# Altium integrated library NSC Temperature Sensor.IntLib: 347 symbols (part 4 of 9)
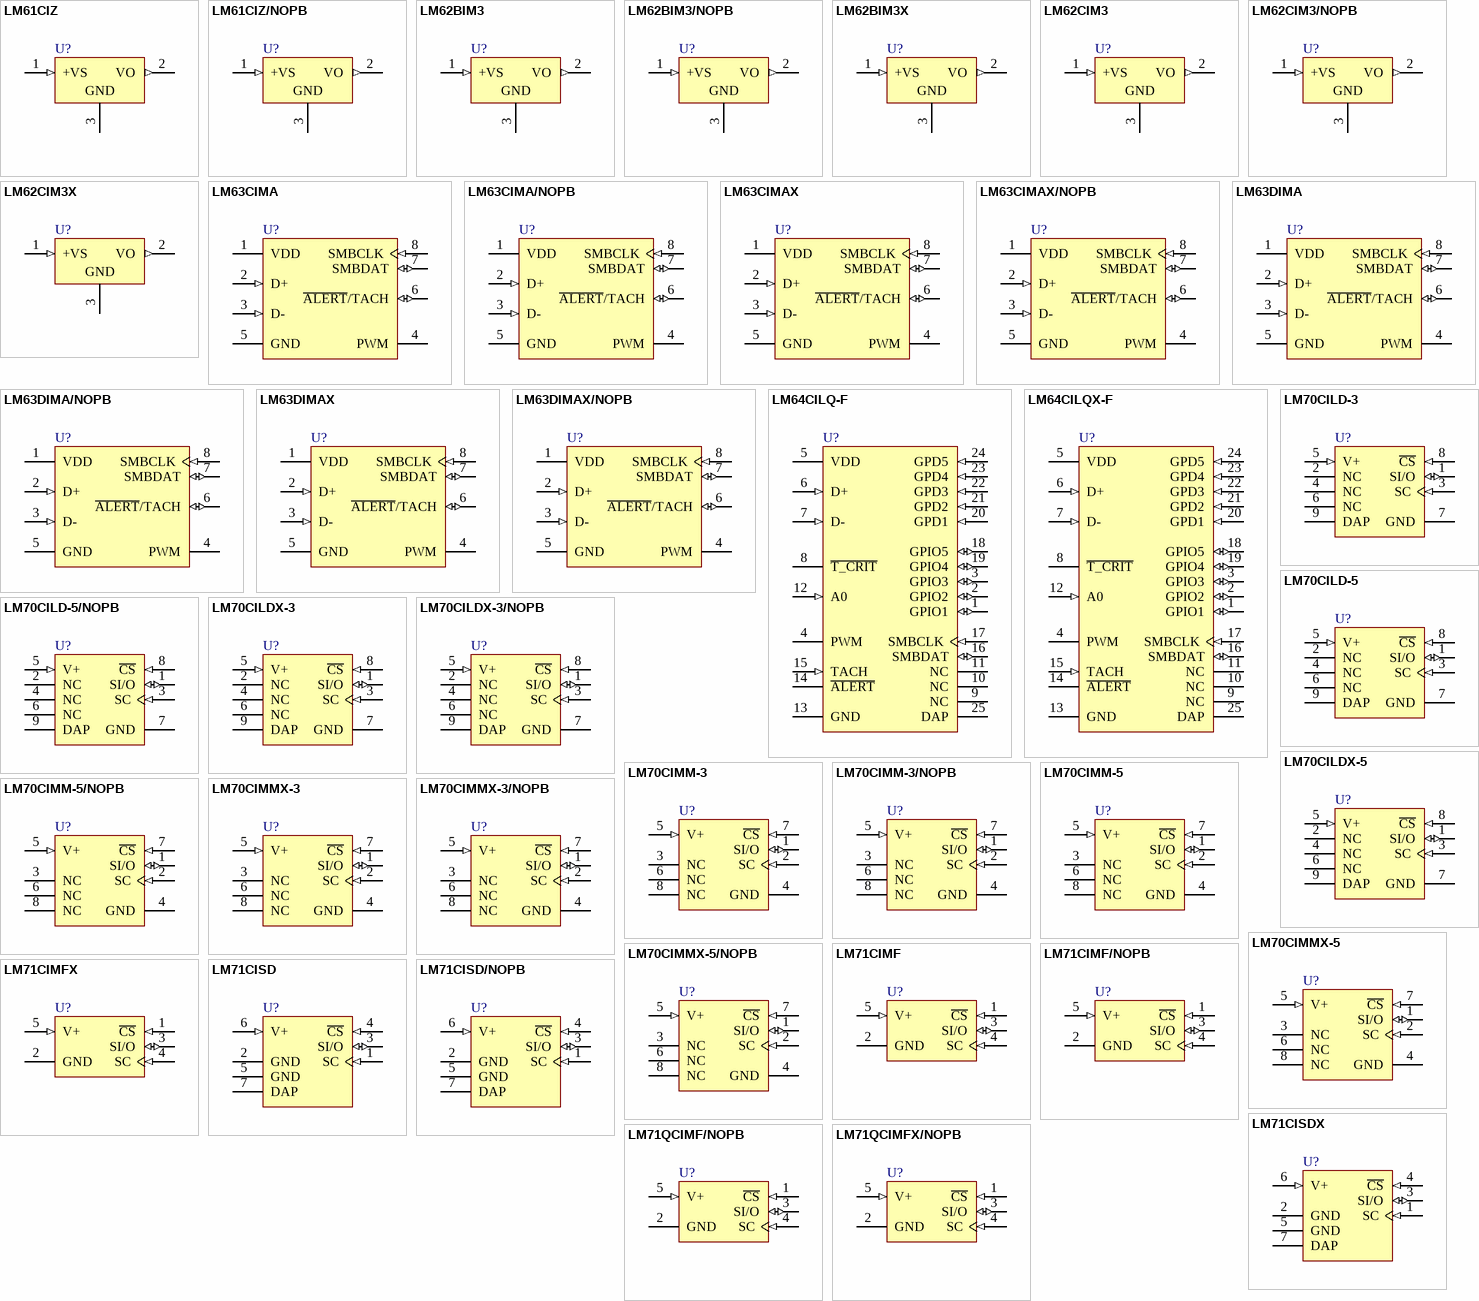
[diagram p12: symbols LM61CIZ to LM71QCIMFX/NOPB]

## LM62CIM3
designator U?
2.7V, 15.6mV/°C, Temperature Sensor, 3-pin SOT-23; PartNumber: LM62CIM3; Manufacturer: National Semiconductor; PackageTopMarking: T7C*XTT; PowerWise: N; CompType: Temp Sensor IC; Published: 4-Dec-2008; DatasheetVersion: Feb-2010; PackageVersion: revB, Mar-2003; PackageReference: MF03A; Publisher: Altium Limited; PackageDescription: Molded SOT-23, .115 x .051 x .037in Body, 3 Lead, .075 in Pitch; Supplier 1: Digi-Key; Supplier Part Number 1: LM62CIM3-ND; RoHS: N; PinCount: 3; ComponentLink1Description: LM62 Datasheet; ComponentLink1URL: http://www.national.com/ds/LM/LM62.pdf; ComponentLink2Description: LM62 Web Page; ComponentLink2URL: http://www.national.com/pf/LM/LM62.html; ComponentLink3Description: MF03A Package Page; ComponentLink3URL: http://www.national.com/packaging/folders/mf03a.html
footprint MF03A_N (SOT23, 3-Leads, Body 2.9x1.3mm, Pitch 0.95mm, Lead Span 2.4mm, IPC Medium Density)
footprint MF03A_L (SOT23, 3-Leads, Body 2.9x1.3mm, Pitch 0.95mm, Lead Span 2.4mm, IPC High Density)
footprint MF03A_M (SOT23, 3-Leads, Body 2.9x1.3mm, Pitch 0.95mm, Lead Span 2.4mm, IPC Low Density)
pins: 1 +VS (in), 2 VO (out), 3 GND (power)

## LM62CIM3/NOPB
designator U?
2.7V, 15.6mV/°C, Temperature Sensor, 3-pin SOT-23, Pb-Free; PartNumber: LM62CIM3/NOPB; Manufacturer: National Semiconductor; PackageTopMarking: T7C*XTT; PowerWise: N; CompType: Temp Sensor IC; Published: 1-Mar-2010; DatasheetVersion: Feb-2010; PackageVersion: revB, Mar-2003; PackageReference: MF03A; Publisher: Altium Limited; PackageDescription: Molded SOT-23, .115 x .051 x .037in Body, 3 Lead, .075 in Pitch; Supplier 1: Digi-Key; Supplier Part Number 1: LM62CIM3/NOPBTR-ND; Supplier 2: Digi-Key; Supplier Part Number 2: LM62CIM3/NOPBCT-ND; Supplier 3: Digi-Key; Supplier Part Number 3: LM62CIM3/NOPBDKR-ND; RoHS: Y; PinCount: 3; ComponentLink1Description: LM62 Datasheet; ComponentLink1URL: http://www.national.com/ds/LM/LM62.pdf; ComponentLink2Description: LM62 Web Page; ComponentLink2URL: http://www.national.com/pf/LM/LM62.html; ComponentLink3Description: MF03A Package Page; ComponentLink3URL: http://www.national.com/packaging/folders/mf03a.html
footprint MF03A_N (SOT23, 3-Leads, Body 2.9x1.3mm, Pitch 0.95mm, Lead Span 2.4mm, IPC Medium Density)
footprint MF03A_L (SOT23, 3-Leads, Body 2.9x1.3mm, Pitch 0.95mm, Lead Span 2.4mm, IPC High Density)
footprint MF03A_M (SOT23, 3-Leads, Body 2.9x1.3mm, Pitch 0.95mm, Lead Span 2.4mm, IPC Low Density)
pins: 1 +VS (in), 2 VO (out), 3 GND (power)

## LM62CIM3X
designator U?
2.7V, 15.6mV/°C, Temperature Sensor, 3-pin SOT-23; PartNumber: LM62CIM3X; Manufacturer: National Semiconductor; PackageTopMarking: T7C*XTT; PowerWise: N; CompType: Temp Sensor IC; Published: 1-Mar-2010; DatasheetVersion: Feb-2010; PackageVersion: revB, Mar-2003; PackageReference: MF03A; Publisher: Altium Limited; PackageDescription: Molded SOT-23, .115 x .051 x .037in Body, 3 Lead, .075 in Pitch; Supplier 1: Digi-Key; Supplier Part Number 1: LM62CIM3XTR-ND; Supplier 2: Digi-Key; Supplier Part Number 2: LM62CIM3XCT-ND; RoHS: N; PinCount: 3; ComponentLink1Description: LM62 Datasheet; ComponentLink1URL: http://www.national.com/ds/LM/LM62.pdf; ComponentLink2Description: LM62 Web Page; ComponentLink2URL: http://www.national.com/pf/LM/LM62.html; ComponentLink3Description: MF03A Package Page; ComponentLink3URL: http://www.national.com/packaging/folders/mf03a.html
footprint MF03A_N (SOT23, 3-Leads, Body 2.9x1.3mm, Pitch 0.95mm, Lead Span 2.4mm, IPC Medium Density)
footprint MF03A_L (SOT23, 3-Leads, Body 2.9x1.3mm, Pitch 0.95mm, Lead Span 2.4mm, IPC High Density)
footprint MF03A_M (SOT23, 3-Leads, Body 2.9x1.3mm, Pitch 0.95mm, Lead Span 2.4mm, IPC Low Density)
pins: 1 +VS (in), 2 VO (out), 3 GND (power)

## LM63CIMA
designator U?
±1ºC/±3ºC Accurate Remote Diode Digital Temperature Sensor with Integrated Fan Control, 8-pin Narrow SOIC; PartNumber: LM63CIMA; Manufacturer: National Semiconductor; PackageTopMarking: NSZXTT*LM63*CIMA; PowerWise: Y; CompType: Temp Sensor IC; Published: 4-Dec-2008; DatasheetVersion: Aug-2009; PackageVersion: revM, May-2009; PackageReference: M08A; Publisher: Altium Limited; PackageDescription: SOIC Narrow, 4.9 x 3.9 x 1.45mm, 8 Lead, 1.27mm Pitch; Supplier 1: Farnell; Supplier Part Number 1: 1286926; RoHS: N; PinCount: 8; Code_JEDEC: MS-012-AA; Code_IPC: SOIC127P600-8; ComponentLink1Description: LM63 Datasheet; ComponentLink1URL: http://www.national.com/ds/LM/LM63.pdf; ComponentLink2Description: LM63 Web Page; ComponentLink2URL: http://www.national.com/pf/LM/LM63.html; ComponentLink3Description: M08A Package Page; ComponentLink3URL: http://www.national.com/packaging/folders/m08a.html
footprint M08A_N (SOIC, 8-Leads, Body 4.9x3.9mm, Pitch 1.27mm, IPC Medium Density)
footprint M08A_L (SOIC, 8-Leads, Body 4.9x3.9mm, Pitch 1.27mm, IPC High Density)
footprint M08A_M (SOIC, 8-Leads, Body 4.9x3.9mm, Pitch 1.27mm, IPC Low Density)
pins: 1 VDD (power), 2 D+ (in), 3 D- (in), 4 PWM (oc), 5 GND (power), 6 ~{ALERT}/TACH (io), 7 SMBDAT (io), 8 SMBCLK (in)

## LM63CIMA/NOPB
designator U?
±1ºC/±3ºC Accurate Remote Diode Digital Temperature Sensor with Integrated Fan Control, 8-pin Narrow SOIC, Pb-Free; PartNumber: LM63CIMA/NOPB; Manufacturer: National Semiconductor; PackageTopMarking: NSZXTT*LM63*CIMA; PowerWise: Y; CompType: Temp Sensor IC; Published: 1-Mar-2010; DatasheetVersion: Aug-2009; PackageVersion: revM, May-2009; PackageReference: M08A; Publisher: Altium Limited; PackageDescription: SOIC Narrow, 4.9 x 3.9 x 1.45mm, 8 Lead, 1.27mm Pitch; Supplier 1: Digi-Key; Supplier Part Number 1: LM63CIMA-ND; Supplier 2: Farnell; Supplier Part Number 2: 1694028; RoHS: Y; PinCount: 8; Code_JEDEC: MS-012-AA; Code_IPC: SOIC127P600-8; ComponentLink1Description: LM63 Datasheet; ComponentLink1URL: http://www.national.com/ds/LM/LM63.pdf; ComponentLink2Description: LM63 Web Page; ComponentLink2URL: http://www.national.com/pf/LM/LM63.html; ComponentLink3Description: M08A Package Page; ComponentLink3URL: http://www.national.com/packaging/folders/m08a.html
footprint M08A_N (SOIC, 8-Leads, Body 4.9x3.9mm, Pitch 1.27mm, IPC Medium Density)
footprint M08A_L (SOIC, 8-Leads, Body 4.9x3.9mm, Pitch 1.27mm, IPC High Density)
footprint M08A_M (SOIC, 8-Leads, Body 4.9x3.9mm, Pitch 1.27mm, IPC Low Density)
pins: 1 VDD (power), 2 D+ (in), 3 D- (in), 4 PWM (oc), 5 GND (power), 6 ~{ALERT}/TACH (io), 7 SMBDAT (io), 8 SMBCLK (in)

## LM63CIMAX
designator U?
±1ºC/±3ºC Accurate Remote Diode Digital Temperature Sensor with Integrated Fan Control, 8-pin Narrow SOIC; PartNumber: LM63CIMAX; Manufacturer: National Semiconductor; PackageTopMarking: NSZXTT*LM63*CIMA; PowerWise: Y; CompType: Temp Sensor IC; Published: 1-Mar-2010; DatasheetVersion: Aug-2009; PackageVersion: revM, May-2009; PackageReference: M08A; Publisher: Altium Limited; PackageDescription: SOIC Narrow, 4.9 x 3.9 x 1.45mm, 8 Lead, 1.27mm Pitch; RoHS: N; PinCount: 8; Code_JEDEC: MS-012-AA; Code_IPC: SOIC127P600-8; ComponentLink1Description: LM63 Datasheet; ComponentLink1URL: http://www.national.com/ds/LM/LM63.pdf; ComponentLink2Description: LM63 Web Page; ComponentLink2URL: http://www.national.com/pf/LM/LM63.html; ComponentLink3Description: M08A Package Page; ComponentLink3URL: http://www.national.com/packaging/folders/m08a.html
footprint M08A_N (SOIC, 8-Leads, Body 4.9x3.9mm, Pitch 1.27mm, IPC Medium Density)
footprint M08A_L (SOIC, 8-Leads, Body 4.9x3.9mm, Pitch 1.27mm, IPC High Density)
footprint M08A_M (SOIC, 8-Leads, Body 4.9x3.9mm, Pitch 1.27mm, IPC Low Density)
pins: 1 VDD (power), 2 D+ (in), 3 D- (in), 4 PWM (oc), 5 GND (power), 6 ~{ALERT}/TACH (io), 7 SMBDAT (io), 8 SMBCLK (in)

## LM63CIMAX/NOPB
designator U?
±1ºC/±3ºC Accurate Remote Diode Digital Temperature Sensor with Integrated Fan Control, 8-pin Narrow SOIC, Pb-Free; PartNumber: LM63CIMAX/NOPB; Manufacturer: National Semiconductor; PackageTopMarking: NSZXTT*LM63*CIMA; PowerWise: Y; CompType: Temp Sensor IC; Published: 1-Mar-2010; DatasheetVersion: Aug-2009; PackageVersion: revM, May-2009; PackageReference: M08A; Publisher: Altium Limited; PackageDescription: SOIC Narrow, 4.9 x 3.9 x 1.45mm, 8 Lead, 1.27mm Pitch; Supplier 1: Digi-Key; Supplier Part Number 1: LM63CIMAX-ND; RoHS: Y; PinCount: 8; Code_JEDEC: MS-012-AA; Code_IPC: SOIC127P600-8; ComponentLink1Description: LM63 Datasheet; ComponentLink1URL: http://www.national.com/ds/LM/LM63.pdf; ComponentLink2Description: LM63 Web Page; ComponentLink2URL: http://www.national.com/pf/LM/LM63.html; ComponentLink3Description: M08A Package Page; ComponentLink3URL: http://www.national.com/packaging/folders/m08a.html
footprint M08A_N (SOIC, 8-Leads, Body 4.9x3.9mm, Pitch 1.27mm, IPC Medium Density)
footprint M08A_L (SOIC, 8-Leads, Body 4.9x3.9mm, Pitch 1.27mm, IPC High Density)
footprint M08A_M (SOIC, 8-Leads, Body 4.9x3.9mm, Pitch 1.27mm, IPC Low Density)
pins: 1 VDD (power), 2 D+ (in), 3 D- (in), 4 PWM (oc), 5 GND (power), 6 ~{ALERT}/TACH (io), 7 SMBDAT (io), 8 SMBCLK (in)

## LM63DIMA
designator U?
±1ºC/±3ºC Accurate Remote Diode Digital Temperature Sensor with Integrated Fan Control, 8-pin Narrow SOIC; PartNumber: LM63DIMA; Manufacturer: National Semiconductor; PackageTopMarking: NSZXTT*LM63*DIMA; PowerWise: Y; CompType: Temp Sensor IC; Published: 4-Dec-2008; DatasheetVersion: Aug-2009; PackageVersion: revM, May-2009; PackageReference: M08A; Publisher: Altium Limited; PackageDescription: SOIC Narrow, 4.9 x 3.9 x 1.45mm, 8 Lead, 1.27mm Pitch; Supplier 1: Farnell; Supplier Part Number 1: 1286925; RoHS: N; PinCount: 8; Code_JEDEC: MS-012-AA; Code_IPC: SOIC127P600-8; ComponentLink1Description: LM63 Datasheet; ComponentLink1URL: http://www.national.com/ds/LM/LM63.pdf; ComponentLink2Description: LM63 Web Page; ComponentLink2URL: http://www.national.com/pf/LM/LM63.html; ComponentLink3Description: M08A Package Page; ComponentLink3URL: http://www.national.com/packaging/folders/m08a.html
footprint M08A_N (SOIC, 8-Leads, Body 4.9x3.9mm, Pitch 1.27mm, IPC Medium Density)
footprint M08A_L (SOIC, 8-Leads, Body 4.9x3.9mm, Pitch 1.27mm, IPC High Density)
footprint M08A_M (SOIC, 8-Leads, Body 4.9x3.9mm, Pitch 1.27mm, IPC Low Density)
pins: 1 VDD (power), 2 D+ (in), 3 D- (in), 4 PWM (oc), 5 GND (power), 6 ~{ALERT}/TACH (io), 7 SMBDAT (io), 8 SMBCLK (in)

## LM63DIMA/NOPB
designator U?
±1ºC/±3ºC Accurate Remote Diode Digital Temperature Sensor with Integrated Fan Control, 8-pin Narrow SOIC, Pb-Free; PartNumber: LM63DIMA/NOPB; Manufacturer: National Semiconductor; PackageTopMarking: NSZXTT*LM63*DIMA; PowerWise: Y; CompType: Temp Sensor IC; Published: 1-Mar-2010; DatasheetVersion: Aug-2009; PackageVersion: revM, May-2009; PackageReference: M08A; Publisher: Altium Limited; PackageDescription: SOIC Narrow, 4.9 x 3.9 x 1.45mm, 8 Lead, 1.27mm Pitch; Supplier 1: Digi-Key; Supplier Part Number 1: LM63DIMA-ND; Supplier 2: Farnell; Supplier Part Number 2: 1654322; RoHS: Y; PinCount: 8; Code_JEDEC: MS-012-AA; Code_IPC: SOIC127P600-8; ComponentLink1Description: LM63 Datasheet; ComponentLink1URL: http://www.national.com/ds/LM/LM63.pdf; ComponentLink2Description: LM63 Web Page; ComponentLink2URL: http://www.national.com/pf/LM/LM63.html; ComponentLink3Description: M08A Package Page; ComponentLink3URL: http://www.national.com/packaging/folders/m08a.html
footprint M08A_N (SOIC, 8-Leads, Body 4.9x3.9mm, Pitch 1.27mm, IPC Medium Density)
footprint M08A_L (SOIC, 8-Leads, Body 4.9x3.9mm, Pitch 1.27mm, IPC High Density)
footprint M08A_M (SOIC, 8-Leads, Body 4.9x3.9mm, Pitch 1.27mm, IPC Low Density)
pins: 1 VDD (power), 2 D+ (in), 3 D- (in), 4 PWM (oc), 5 GND (power), 6 ~{ALERT}/TACH (io), 7 SMBDAT (io), 8 SMBCLK (in)

## LM63DIMAX
designator U?
±1ºC/±3ºC Accurate Remote Diode Digital Temperature Sensor with Integrated Fan Control, 8-pin Narrow SOIC; PartNumber: LM63DIMAX; Manufacturer: National Semiconductor; PackageTopMarking: NSZXTT*LM63*DIMA; PowerWise: Y; CompType: Temp Sensor IC; Published: 1-Mar-2010; DatasheetVersion: Aug-2009; PackageVersion: revM, May-2009; PackageReference: M08A; Publisher: Altium Limited; PackageDescription: SOIC Narrow, 4.9 x 3.9 x 1.45mm, 8 Lead, 1.27mm Pitch; RoHS: N; PinCount: 8; Code_JEDEC: MS-012-AA; Code_IPC: SOIC127P600-8; ComponentLink1Description: LM63 Datasheet; ComponentLink1URL: http://www.national.com/ds/LM/LM63.pdf; ComponentLink2Description: LM63 Web Page; ComponentLink2URL: http://www.national.com/pf/LM/LM63.html; ComponentLink3Description: M08A Package Page; ComponentLink3URL: http://www.national.com/packaging/folders/m08a.html
footprint M08A_N (SOIC, 8-Leads, Body 4.9x3.9mm, Pitch 1.27mm, IPC Medium Density)
footprint M08A_L (SOIC, 8-Leads, Body 4.9x3.9mm, Pitch 1.27mm, IPC High Density)
footprint M08A_M (SOIC, 8-Leads, Body 4.9x3.9mm, Pitch 1.27mm, IPC Low Density)
pins: 1 VDD (power), 2 D+ (in), 3 D- (in), 4 PWM (oc), 5 GND (power), 6 ~{ALERT}/TACH (io), 7 SMBDAT (io), 8 SMBCLK (in)

## LM63DIMAX/NOPB
designator U?
±1ºC/±3ºC Accurate Remote Diode Digital Temperature Sensor with Integrated Fan Control, 8-pin Narrow SOIC, Pb-Free; PartNumber: LM63DIMAX/NOPB; Manufacturer: National Semiconductor; PackageTopMarking: NSZXTT*LM63*DIMA; PowerWise: Y; CompType: Temp Sensor IC; Published: 1-Mar-2010; DatasheetVersion: Aug-2009; PackageVersion: revM, May-2009; PackageReference: M08A; Publisher: Altium Limited; PackageDescription: SOIC Narrow, 4.9 x 3.9 x 1.45mm, 8 Lead, 1.27mm Pitch; Supplier 1: Digi-Key; Supplier Part Number 1: LM63DIMAX-ND; RoHS: Y; PinCount: 8; Code_JEDEC: MS-012-AA; Code_IPC: SOIC127P600-8; ComponentLink1Description: LM63 Datasheet; ComponentLink1URL: http://www.national.com/ds/LM/LM63.pdf; ComponentLink2Description: LM63 Web Page; ComponentLink2URL: http://www.national.com/pf/LM/LM63.html; ComponentLink3Description: M08A Package Page; ComponentLink3URL: http://www.national.com/packaging/folders/m08a.html
footprint M08A_N (SOIC, 8-Leads, Body 4.9x3.9mm, Pitch 1.27mm, IPC Medium Density)
footprint M08A_L (SOIC, 8-Leads, Body 4.9x3.9mm, Pitch 1.27mm, IPC High Density)
footprint M08A_M (SOIC, 8-Leads, Body 4.9x3.9mm, Pitch 1.27mm, IPC Low Density)
pins: 1 VDD (power), 2 D+ (in), 3 D- (in), 4 PWM (oc), 5 GND (power), 6 ~{ALERT}/TACH (io), 7 SMBDAT (io), 8 SMBCLK (in)

## LM64CILQ-F
designator U?
±1ºC Remote Diode Temperature Sensor with PWM Fan Control and 5 GPIO's, 25-pin LLP; PartNumber: LM64CILQ-F; Manufacturer: National Semiconductor; PackageTopMarking: NS*UZXYTT*64CILQF; PowerWise: N; CompType: Temp Sensor IC; Published: 4-Dec-2008; DatasheetVersion: Dec-2003; PackageVersion: revB, Sep-2003; PackageReference: LQA24A; Publisher: Altium Limited; PackageDescription: LLP, Plastic, Quad, 5 x 4 x 0.8mm Body, 24 Lead, 0.5mm Pitch; Supplier 1: Farnell; Supplier Part Number 1: 8181802; RoHS: N; PinCount: 24; ComponentLink1Description: LM64 Datasheet; ComponentLink1URL: http://www.national.com/ds/LM/LM64.pdf; ComponentLink2Description: LM64 Web Page; ComponentLink2URL: http://www.national.com/pf/LM/LM64.html; ComponentLink3Description: LQA24A Package Page; ComponentLink3URL: http://www.national.com/packaging/folders/lqa24a.html
footprint LQA24A (PQFN, 24-Leads, Body 4x5mm, Pitch 0.5mm, NSC Recommended)
pins: 1 GPIO1 (io), 2 GPIO2 (io), 3 GPIO3 (io), 4 PWM (oc), 5 VDD (power), 6 D+ (in), 7 D- (in), 8 ~{T_CRIT} (oc), 9 NC, 10 NC, 11 NC, 12 A0 (in), 13 GND (power), 14 ~{ALERT} (oc), 15 TACH (in), 16 SMBDAT (io), 17 SMBCLK (in), 18 GPIO5 (io), 19 GPIO4 (io), 20 GPD1 (in), 21 GPD2 (in), 22 GPD3 (in), 23 GPD4 (in), 24 GPD5 (in), 25 DAP (power)

## LM64CILQX-F
designator U?
±1ºC Remote Diode Temperature Sensor with PWM Fan Control and 5 GPIO's, 25-pin LLP; PartNumber: LM64CILQX-F; Manufacturer: National Semiconductor; PackageTopMarking: NS*UZXYTT*CILQF; PowerWise: N; CompType: Temp Sensor IC; Published: 4-Dec-2008; DatasheetVersion: Dec-2003; PackageVersion: revB, Sep-2003; PackageReference: LQA24A; Publisher: Altium Limited; PackageDescription: LLP, Plastic, Quad, 5 x 4 x 0.8mm Body, 24 Lead, 0.5mm Pitch; RoHS: N; PinCount: 24; ComponentLink1Description: LM64 Datasheet; ComponentLink1URL: http://www.national.com/ds/LM/LM64.pdf; ComponentLink2Description: LM64 Web Page; ComponentLink2URL: http://www.national.com/pf/LM/LM64.html; ComponentLink3Description: LQA24A Package Page; ComponentLink3URL: http://www.national.com/packaging/folders/lqa24a.html
footprint LQA24A (PQFN, 24-Leads, Body 4x5mm, Pitch 0.5mm, NSC Recommended)
pins: 1 GPIO1 (io), 2 GPIO2 (io), 3 GPIO3 (io), 4 PWM (oc), 5 VDD (power), 6 D+ (in), 7 D- (in), 8 ~{T_CRIT} (oc), 9 NC, 10 NC, 11 NC, 12 A0 (in), 13 GND (power), 14 ~{ALERT} (oc), 15 TACH (in), 16 SMBDAT (io), 17 SMBCLK (in), 18 GPIO5 (io), 19 GPIO4 (io), 20 GPD1 (in), 21 GPD2 (in), 22 GPD3 (in), 23 GPD4 (in), 24 GPD5 (in), 25 DAP (power)

## LM70CILD-3
designator U?
SPI/MICROWIRE 10-Bit plus Sign Digital Temperature Sensor, 9-pin LLP; PartNumber: LM70CILD-3; Manufacturer: National Semiconductor; PackageTopMarking: ZXYTT*T33; PowerWise: Y; CompType: Temp Sensor IC; Published: 4-Dec-2008; DatasheetVersion: Feb-2010; PackageVersion: revC, Nov-2002; PackageReference: LDA08A; Publisher: Altium Limited; PackageDescription: LLP, Plastic, Dual, 3 x 3 x 0.75mm Body, 8 Lead, 0.5mm Pitch; RoHS: N; PinCount: 8; ComponentLink1Description: LM70 Datasheet; ComponentLink1URL: http://www.national.com/ds/LM/LM70.pdf; ComponentLink2Description: LM70 Web Page; ComponentLink2URL: http://www.national.com/pf/LM/LM70.html; ComponentLink3Description: LDA08A Package Page; ComponentLink3URL: http://www.national.com/packaging/folders/lda08a.html
footprint LDA08A (PSON, 8-Leads, Body 3x3mm, Pitch 0.5mm, NSC Recommended)
pins: 1 SI/O (io), 2 NC, 3 SC (in), 4 NC, 5 V+ (in), 6 NC, 7 GND (power), 8 ~{CS} (in), 9 DAP (power)

## LM70CILD-5
designator U?
SPI/MICROWIRE 10-Bit plus Sign Digital Temperature Sensor, 9-pin LLP; PartNumber: LM70CILD-5; Manufacturer: National Semiconductor; PackageTopMarking: ZXYTT*T35; PowerWise: Y; CompType: Temp Sensor IC; Published: 4-Dec-2008; DatasheetVersion: Feb-2010; PackageVersion: revC, Nov-2002; PackageReference: LDA08A; Publisher: Altium Limited; PackageDescription: LLP, Plastic, Dual, 3 x 3 x 0.75mm Body, 8 Lead, 0.5mm Pitch; RoHS: N; PinCount: 8; ComponentLink1Description: LM70 Datasheet; ComponentLink1URL: http://www.national.com/ds/LM/LM70.pdf; ComponentLink2Description: LM70 Web Page; ComponentLink2URL: http://www.national.com/pf/LM/LM70.html; ComponentLink3Description: LDA08A Package Page; ComponentLink3URL: http://www.national.com/packaging/folders/lda08a.html
footprint LDA08A (PSON, 8-Leads, Body 3x3mm, Pitch 0.5mm, NSC Recommended)
pins: 1 SI/O (io), 2 NC, 3 SC (in), 4 NC, 5 V+ (in), 6 NC, 7 GND (power), 8 ~{CS} (in), 9 DAP (power)

## LM70CILD-5/NOPB
designator U?
SPI/10-Bit plus Sign Digital Temperature Sensor, 8-pin LLP, Pb-Free; PartNumber: LM70CILD-5/NOPB; Manufacturer: National Semiconductor; PackageTopMarking: ZXYTT*T35; PowerWise: Y; CompType: Temp Sensor IC; Published: 1-Mar-2010; DatasheetVersion: Feb-2010; PackageVersion: revC, Nov-2002; PackageReference: LDA08A; Publisher: Altium Limited; PackageDescription: LLP, Plastic, Dual, 3 x 3 x 0.75mm Body, 8 Lead, 0.5mm Pitch; Supplier 1: Digi-Key; Supplier Part Number 1: LM70CILD-5TR-ND; Supplier 2: Digi-Key; Supplier Part Number 2: LM70CILD-5CT-ND; Supplier 3: Digi-Key; Supplier Part Number 3: LM70CILD-5DKR-ND; RoHS: Y; PinCount: 8; ComponentLink1Description: LM70 Datasheet; ComponentLink1URL: http://www.national.com/ds/LM/LM70.pdf; ComponentLink2Description: LM70 Web Page; ComponentLink2URL: http://www.national.com/pf/LM/LM70.html; ComponentLink3Description: LDA08A Package Page; ComponentLink3URL: http://www.national.com/packaging/folders/lda08a.html
footprint LDA08A (PSON, 8-Leads, Body 3x3mm, Pitch 0.5mm, NSC Recommended)
pins: 1 SI/O (io), 2 NC, 3 SC (in), 4 NC, 5 V+ (in), 6 NC, 7 GND (power), 8 ~{CS} (in), 9 DAP (power)

## LM70CILDX-3
designator U?
SPI/10-Bit plus Sign Digital Temperature Sensor, 8-pin LLP; PartNumber: LM70CILDX-3; Manufacturer: National Semiconductor; PackageTopMarking: ZXYTT*T33; PowerWise: Y; CompType: Temp Sensor IC; Published: 1-Mar-2010; DatasheetVersion: Feb-2010; PackageVersion: revC, Nov-2002; PackageReference: LDA08A; Publisher: Altium Limited; PackageDescription: LLP, Plastic, Dual, 3 x 3 x 0.75mm Body, 8 Lead, 0.5mm Pitch; RoHS: N; PinCount: 8; ComponentLink1Description: LM70 Datasheet; ComponentLink1URL: http://www.national.com/ds/LM/LM70.pdf; ComponentLink2Description: LM70 Web Page; ComponentLink2URL: http://www.national.com/pf/LM/LM70.html; ComponentLink3Description: LDA08A Package Page; ComponentLink3URL: http://www.national.com/packaging/folders/lda08a.html
footprint LDA08A (PSON, 8-Leads, Body 3x3mm, Pitch 0.5mm, NSC Recommended)
pins: 1 SI/O (io), 2 NC, 3 SC (in), 4 NC, 5 V+ (in), 6 NC, 7 GND (power), 8 ~{CS} (in), 9 DAP (power)

## LM70CILDX-3/NOPB
designator U?
SPI/10-Bit plus Sign Digital Temperature Sensor, 8-pin LLP, Pb-Free; PartNumber: LM70CILDX-3/NOPB; Manufacturer: National Semiconductor; PackageTopMarking: ZXYTT*T33; PowerWise: Y; CompType: Temp Sensor IC; Published: 1-Mar-2010; DatasheetVersion: Feb-2010; PackageVersion: revC, Nov-2002; PackageReference: LDA08A; Publisher: Altium Limited; PackageDescription: LLP, Plastic, Dual, 3 x 3 x 0.75mm Body, 8 Lead, 0.5mm Pitch; Supplier 1: Digi-Key; Supplier Part Number 1: LM70CILDX-3-ND; RoHS: Y; PinCount: 8; ComponentLink1Description: LM70 Datasheet; ComponentLink1URL: http://www.national.com/ds/LM/LM70.pdf; ComponentLink2Description: LM70 Web Page; ComponentLink2URL: http://www.national.com/pf/LM/LM70.html; ComponentLink3Description: LDA08A Package Page; ComponentLink3URL: http://www.national.com/packaging/folders/lda08a.html
footprint LDA08A (PSON, 8-Leads, Body 3x3mm, Pitch 0.5mm, NSC Recommended)
pins: 1 SI/O (io), 2 NC, 3 SC (in), 4 NC, 5 V+ (in), 6 NC, 7 GND (power), 8 ~{CS} (in), 9 DAP (power)

## LM70CILDX-5
designator U?
SPI/10-Bit plus Sign Digital Temperature Sensor, 8-pin LLP; PartNumber: LM70CILDX-5; Manufacturer: National Semiconductor; PackageTopMarking: ZXYTT*T35; PowerWise: Y; CompType: Temp Sensor IC; Published: 1-Mar-2010; DatasheetVersion: Feb-2010; PackageVersion: revC, Nov-2002; PackageReference: LDA08A; Publisher: Altium Limited; PackageDescription: LLP, Plastic, Dual, 3 x 3 x 0.75mm Body, 8 Lead, 0.5mm Pitch; RoHS: N; PinCount: 8; ComponentLink1Description: LM70 Datasheet; ComponentLink1URL: http://www.national.com/ds/LM/LM70.pdf; ComponentLink2Description: LM70 Web Page; ComponentLink2URL: http://www.national.com/pf/LM/LM70.html; ComponentLink3Description: LDA08A Package Page; ComponentLink3URL: http://www.national.com/packaging/folders/lda08a.html
footprint LDA08A (PSON, 8-Leads, Body 3x3mm, Pitch 0.5mm, NSC Recommended)
pins: 1 SI/O (io), 2 NC, 3 SC (in), 4 NC, 5 V+ (in), 6 NC, 7 GND (power), 8 ~{CS} (in), 9 DAP (power)

## LM70CIMM-3
designator U?
SPI/MICROWIRE 10-Bit plus Sign Digital Temperature Sensor, 8-pin Mini SOIC; PartNumber: LM70CIMM-3; Manufacturer: National Semiconductor; PackageTopMarking: ZXTT*T04C; PowerWise: Y; CompType: Temp Sensor IC; Published: 4-Dec-2008; DatasheetVersion: Feb-2010; PackageVersion: revF, Apr-2008; PackageReference: MUA08A; Publisher: Altium Limited; PackageDescription: MINI SOIC, .118 x .118 x .034in, 8 Lead, .0256in Pitch; Supplier 1: Farnell; Supplier Part Number 1: 1312795; RoHS: N; PinCount: 8; Code_JEDEC: MO-187-AA; ComponentLink1Description: LM70 Datasheet; ComponentLink1URL: http://www.national.com/ds/LM/LM70.pdf; ComponentLink2Description: LM70 Web Page; ComponentLink2URL: http://www.national.com/pf/LM/LM70.html; ComponentLink3Description: MUA08A Package Page; ComponentLink3URL: http://www.national.com/packaging/folders/mua08a.html
footprint MUA08A_N (TSOP, 8-Leads, Body 3x3mm, Pitch 0.65mm, IPC Medium Density)
footprint MUA08A_L (TSOP, 8-Leads, Body 3x3mm, Pitch 0.65mm, IPC High Density)
footprint MUA08A_M (TSOP, 8-Leads, Body 3x3mm, Pitch 0.65mm, IPC Low Density)
pins: 1 SI/O (io), 2 SC (in), 3 NC, 4 GND (power), 5 V+ (in), 6 NC, 7 ~{CS} (in), 8 NC

## LM70CIMM-3/NOPB
designator U?
SPI/10-Bit plus Sign Digital Temperature Sensor, 8-pin Mini SOIC, Pb-Free; PartNumber: LM70CIMM-3/NOPB; Manufacturer: National Semiconductor; PackageTopMarking: ZXTT*T04C; PowerWise: Y; CompType: Temp Sensor IC; Published: 1-Mar-2010; DatasheetVersion: Feb-2010; PackageVersion: revF, Apr-2008; PackageReference: MUA08A; Publisher: Altium Limited; PackageDescription: MINI SOIC, .118 x .118 x .034in, 8 Lead, .0256in Pitch; Supplier 1: Digi-Key; Supplier Part Number 1: LM70CIMM-3TR-ND; Supplier 2: Digi-Key; Supplier Part Number 2: LM70CIMM-3CT-ND; Supplier 3: Digi-Key; Supplier Part Number 3: LM70CIMM-3DKR-ND; Supplier 4: Farnell; Supplier Part Number 4: 1469243; RoHS: Y; PinCount: 8; Code_JEDEC: MO-187-AA; ComponentLink1Description: LM70 Datasheet; ComponentLink1URL: http://www.national.com/ds/LM/LM70.pdf; ComponentLink2Description: LM70 Web Page; ComponentLink2URL: http://www.national.com/pf/LM/LM70.html; ComponentLink3Description: MUA08A Package Page; ComponentLink3URL: http://www.national.com/packaging/folders/mua08a.html
footprint MUA08A_N (TSOP, 8-Leads, Body 3x3mm, Pitch 0.65mm, IPC Medium Density)
footprint MUA08A_L (TSOP, 8-Leads, Body 3x3mm, Pitch 0.65mm, IPC High Density)
footprint MUA08A_M (TSOP, 8-Leads, Body 3x3mm, Pitch 0.65mm, IPC Low Density)
pins: 1 SI/O (io), 2 SC (in), 3 NC, 4 GND (power), 5 V+ (in), 6 NC, 7 ~{CS} (in), 8 NC

## LM70CIMM-5
designator U?
SPI/MICROWIRE 10-Bit plus Sign Digital Temperature Sensor, 8-pin Mini SOIC; PartNumber: LM70CIMM-5; Manufacturer: National Semiconductor; PackageTopMarking: ZXTT*T03C; PowerWise: Y; CompType: Temp Sensor IC; Published: 4-Dec-2008; DatasheetVersion: Feb-2010; PackageVersion: revF, Apr-2008; PackageReference: MUA08A; Publisher: Altium Limited; PackageDescription: MINI SOIC, .118 x .118 x .034in, 8 Lead, .0256in Pitch; Supplier 1: Farnell; Supplier Part Number 1: 9779230; RoHS: N; PinCount: 8; Code_JEDEC: MO-187-AA; ComponentLink1Description: LM70 Datasheet; ComponentLink1URL: http://www.national.com/ds/LM/LM70.pdf; ComponentLink2Description: LM70 Web Page; ComponentLink2URL: http://www.national.com/pf/LM/LM70.html; ComponentLink3Description: MUA08A Package Page; ComponentLink3URL: http://www.national.com/packaging/folders/mua08a.html
footprint MUA08A_N (TSOP, 8-Leads, Body 3x3mm, Pitch 0.65mm, IPC Medium Density)
footprint MUA08A_L (TSOP, 8-Leads, Body 3x3mm, Pitch 0.65mm, IPC High Density)
footprint MUA08A_M (TSOP, 8-Leads, Body 3x3mm, Pitch 0.65mm, IPC Low Density)
pins: 1 SI/O (io), 2 SC (in), 3 NC, 4 GND (power), 5 V+ (in), 6 NC, 7 ~{CS} (in), 8 NC

## LM70CIMM-5/NOPB
designator U?
SPI/10-Bit plus Sign Digital Temperature Sensor, 8-pin Mini SOIC, Pb-Free; PartNumber: LM70CIMM-5/NOPB; Manufacturer: National Semiconductor; PackageTopMarking: ZXTT*T03C; PowerWise: Y; CompType: Temp Sensor IC; Published: 1-Mar-2010; DatasheetVersion: Feb-2010; PackageVersion: revF, Apr-2008; PackageReference: MUA08A; Publisher: Altium Limited; PackageDescription: MINI SOIC, .118 x .118 x .034in, 8 Lead, .0256in Pitch; Supplier 1: Digi-Key; Supplier Part Number 1: LM70CIMM-5TR-ND; Supplier 2: Digi-Key; Supplier Part Number 2: LM70CIMM-5CT-ND; Supplier 3: Digi-Key; Supplier Part Number 3: LM70CIMM-5DKR-ND; Supplier 4: Farnell; Supplier Part Number 4: 1469244; RoHS: Y; PinCount: 8; Code_JEDEC: MO-187-AA; ComponentLink1Description: LM70 Datasheet; ComponentLink1URL: http://www.national.com/ds/LM/LM70.pdf; ComponentLink2Description: LM70 Web Page; ComponentLink2URL: http://www.national.com/pf/LM/LM70.html; ComponentLink3Description: MUA08A Package Page; ComponentLink3URL: http://www.national.com/packaging/folders/mua08a.html
footprint MUA08A_N (TSOP, 8-Leads, Body 3x3mm, Pitch 0.65mm, IPC Medium Density)
footprint MUA08A_L (TSOP, 8-Leads, Body 3x3mm, Pitch 0.65mm, IPC High Density)
footprint MUA08A_M (TSOP, 8-Leads, Body 3x3mm, Pitch 0.65mm, IPC Low Density)
pins: 1 SI/O (io), 2 SC (in), 3 NC, 4 GND (power), 5 V+ (in), 6 NC, 7 ~{CS} (in), 8 NC

## LM70CIMMX-3
designator U?
SPI/10-Bit plus Sign Digital Temperature Sensor, 8-pin Mini SOIC; PartNumber: LM70CIMMX-3; Manufacturer: National Semiconductor; PackageTopMarking: ZXTT*T04C; PowerWise: Y; CompType: Temp Sensor IC; Published: 1-Mar-2010; DatasheetVersion: Feb-2010; PackageVersion: revF, Apr-2008; PackageReference: MUA08A; Publisher: Altium Limited; PackageDescription: MINI SOIC, .118 x .118 x .034in, 8 Lead, .0256in Pitch; RoHS: N; PinCount: 8; Code_JEDEC: MO-187-AA; ComponentLink1Description: LM70 Datasheet; ComponentLink1URL: http://www.national.com/ds/LM/LM70.pdf; ComponentLink2Description: LM70 Web Page; ComponentLink2URL: http://www.national.com/pf/LM/LM70.html; ComponentLink3Description: MUA08A Package Page; ComponentLink3URL: http://www.national.com/packaging/folders/mua08a.html
footprint MUA08A_N (TSOP, 8-Leads, Body 3x3mm, Pitch 0.65mm, IPC Medium Density)
footprint MUA08A_L (TSOP, 8-Leads, Body 3x3mm, Pitch 0.65mm, IPC High Density)
footprint MUA08A_M (TSOP, 8-Leads, Body 3x3mm, Pitch 0.65mm, IPC Low Density)
pins: 1 SI/O (io), 2 SC (in), 3 NC, 4 GND (power), 5 V+ (in), 6 NC, 7 ~{CS} (in), 8 NC

## LM70CIMMX-3/NOPB
designator U?
SPI/10-Bit plus Sign Digital Temperature Sensor, 8-pin Mini SOIC, Pb-Free; PartNumber: LM70CIMMX-3/NOPB; Manufacturer: National Semiconductor; PackageTopMarking: ZXTT*T04C; PowerWise: Y; CompType: Temp Sensor IC; Published: 1-Mar-2010; DatasheetVersion: Feb-2010; PackageVersion: revF, Apr-2008; PackageReference: MUA08A; Publisher: Altium Limited; PackageDescription: MINI SOIC, .118 x .118 x .034in, 8 Lead, .0256in Pitch; Supplier 1: Digi-Key; Supplier Part Number 1: LM70CIMMX-3TR-ND; Supplier 2: Digi-Key; Supplier Part Number 2: LM70CIMMX-3CT-ND; Supplier 3: Digi-Key; Supplier Part Number 3: LM70CIMMX-3DKR-ND; Supplier 4: Farnell; Supplier Part Number 4: 1518384; RoHS: Y; PinCount: 8; Code_JEDEC: MO-187-AA; ComponentLink1Description: LM70 Datasheet; ComponentLink1URL: http://www.national.com/ds/LM/LM70.pdf; ComponentLink2Description: LM70 Web Page; ComponentLink2URL: http://www.national.com/pf/LM/LM70.html; ComponentLink3Description: MUA08A Package Page; ComponentLink3URL: http://www.national.com/packaging/folders/mua08a.html
footprint MUA08A_N (TSOP, 8-Leads, Body 3x3mm, Pitch 0.65mm, IPC Medium Density)
footprint MUA08A_L (TSOP, 8-Leads, Body 3x3mm, Pitch 0.65mm, IPC High Density)
footprint MUA08A_M (TSOP, 8-Leads, Body 3x3mm, Pitch 0.65mm, IPC Low Density)
pins: 1 SI/O (io), 2 SC (in), 3 NC, 4 GND (power), 5 V+ (in), 6 NC, 7 ~{CS} (in), 8 NC

## LM70CIMMX-5
designator U?
SPI/10-Bit plus Sign Digital Temperature Sensor, 8-pin Mini SOIC; PartNumber: LM70CIMMX-5; Manufacturer: National Semiconductor; PackageTopMarking: ZXTT*T03C; PowerWise: Y; CompType: Temp Sensor IC; Published: 1-Mar-2010; DatasheetVersion: Feb-2010; PackageVersion: revF, Apr-2008; PackageReference: MUA08A; Publisher: Altium Limited; PackageDescription: MINI SOIC, .118 x .118 x .034in, 8 Lead, .0256in Pitch; RoHS: N; PinCount: 8; Code_JEDEC: MO-187-AA; ComponentLink1Description: LM70 Datasheet; ComponentLink1URL: http://www.national.com/ds/LM/LM70.pdf; ComponentLink2Description: LM70 Web Page; ComponentLink2URL: http://www.national.com/pf/LM/LM70.html; ComponentLink3Description: MUA08A Package Page; ComponentLink3URL: http://www.national.com/packaging/folders/mua08a.html
footprint MUA08A_N (TSOP, 8-Leads, Body 3x3mm, Pitch 0.65mm, IPC Medium Density)
footprint MUA08A_L (TSOP, 8-Leads, Body 3x3mm, Pitch 0.65mm, IPC High Density)
footprint MUA08A_M (TSOP, 8-Leads, Body 3x3mm, Pitch 0.65mm, IPC Low Density)
pins: 1 SI/O (io), 2 SC (in), 3 NC, 4 GND (power), 5 V+ (in), 6 NC, 7 ~{CS} (in), 8 NC

## LM70CIMMX-5/NOPB
designator U?
SPI/10-Bit plus Sign Digital Temperature Sensor, 8-pin Mini SOIC, Pb-Free; PartNumber: LM70CIMMX-5/NOPB; Manufacturer: National Semiconductor; PackageTopMarking: ZXTT*T03C; PowerWise: Y; CompType: Temp Sensor IC; Published: 1-Mar-2010; DatasheetVersion: Feb-2010; PackageVersion: revF, Apr-2008; PackageReference: MUA08A; Publisher: Altium Limited; PackageDescription: MINI SOIC, .118 x .118 x .034in, 8 Lead, .0256in Pitch; Supplier 1: Digi-Key; Supplier Part Number 1: LM70CIMMX-5-ND; RoHS: Y; PinCount: 8; Code_JEDEC: MO-187-AA; ComponentLink1Description: LM70 Datasheet; ComponentLink1URL: http://www.national.com/ds/LM/LM70.pdf; ComponentLink2Description: LM70 Web Page; ComponentLink2URL: http://www.national.com/pf/LM/LM70.html; ComponentLink3Description: MUA08A Package Page; ComponentLink3URL: http://www.national.com/packaging/folders/mua08a.html
footprint MUA08A_N (TSOP, 8-Leads, Body 3x3mm, Pitch 0.65mm, IPC Medium Density)
footprint MUA08A_L (TSOP, 8-Leads, Body 3x3mm, Pitch 0.65mm, IPC High Density)
footprint MUA08A_M (TSOP, 8-Leads, Body 3x3mm, Pitch 0.65mm, IPC Low Density)
pins: 1 SI/O (io), 2 SC (in), 3 NC, 4 GND (power), 5 V+ (in), 6 NC, 7 ~{CS} (in), 8 NC

## LM71CIMF
designator U?
SPI/MICROWIRE 13-Bit Plus Sign Temperature Sensor, 5-pin SOT-23; PartNumber: LM71CIMF; Manufacturer: National Semiconductor; PackageTopMarking: T16C*XTT; PowerWise: Y; CompType: Temp Sensor IC; Published: 4-Dec-2008; DatasheetVersion: Feb-2010; PackageVersion: revD, Aug-2008; PackageReference: MF05A; Publisher: Altium Limited; PackageDescription: Molded SOT-23, .115 x .063 x .040 in Body, 5 Lead, .0375 in Pitch; Supplier 1: Farnell; Supplier Part Number 1: 1312796; RoHS: N; PinCount: 5; ComponentLink1Description: LM71 Datasheet; ComponentLink1URL: http://www.national.com/ds/LM/LM71.pdf; ComponentLink2Description: LM71 Web Page; ComponentLink2URL: http://www.national.com/pf/LM/LM71.html; ComponentLink3Description: MF05A Package Page; ComponentLink3URL: http://www.national.com/packaging/folders/mf05a.html
footprint MF05A_N (SOT23, 5-Leads, Body 2.9x1.6mm, Pitch 0.95mm, Lead Span 2.8mm, IPC Medium Density)
footprint MF05A_L (SOT23, 5-Leads, Body 2.9x1.6mm, Pitch 0.95mm, Lead Span 2.8mm, IPC High Density)
footprint MF05A_M (SOT23, 5-Leads, Body 2.9x1.6mm, Pitch 0.95mm, Lead Span 2.8mm, IPC Low Density)
pins: 1 ~{CS} (in), 2 GND (power), 3 SI/O (io), 4 SC (in), 5 V+ (in)

## LM71CIMF/NOPB
designator U?
SPI/MICROWIRE 13-Bit Plus Sign Temperature Sensor, 5-pin SOT-23, Pb-Free; PartNumber: LM71CIMF/NOPB; Manufacturer: National Semiconductor; PackageTopMarking: T16C*XTT; PowerWise: Y; CompType: Temp Sensor IC; Published: 1-Mar-2010; DatasheetVersion: Feb-2010; PackageVersion: revD, Aug-2008; PackageReference: MF05A; Publisher: Altium Limited; PackageDescription: Molded SOT-23, .115 x .063 x .040 in Body, 5 Lead, .0375 in Pitch; Supplier 1: Digi-Key; Supplier Part Number 1: LM71CIMFTR-ND; Supplier 2: Digi-Key; Supplier Part Number 2: LM71CIMFCT-ND; Supplier 3: Digi-Key; Supplier Part Number 3: LM71CIMFDKR-ND; RoHS: Y; PinCount: 5; ComponentLink1Description: LM71 Datasheet; ComponentLink1URL: http://www.national.com/ds/LM/LM71.pdf; ComponentLink2Description: LM71 Web Page; ComponentLink2URL: http://www.national.com/pf/LM/LM71.html; ComponentLink3Description: MF05A Package Page; ComponentLink3URL: http://www.national.com/packaging/folders/mf05a.html
footprint MF05A_N (SOT23, 5-Leads, Body 2.9x1.6mm, Pitch 0.95mm, Lead Span 2.8mm, IPC Medium Density)
footprint MF05A_L (SOT23, 5-Leads, Body 2.9x1.6mm, Pitch 0.95mm, Lead Span 2.8mm, IPC High Density)
footprint MF05A_M (SOT23, 5-Leads, Body 2.9x1.6mm, Pitch 0.95mm, Lead Span 2.8mm, IPC Low Density)
pins: 1 ~{CS} (in), 2 GND (power), 3 SI/O (io), 4 SC (in), 5 V+ (in)

## LM71CIMFX
designator U?
SPI/MICROWIRE 13-Bit Plus Sign Temperature Sensor, 5-pin SOT-23; PartNumber: LM71CIMFX; Manufacturer: National Semiconductor; PackageTopMarking: T16C*XTT; PowerWise: Y; CompType: Temp Sensor IC; Published: 1-Mar-2010; DatasheetVersion: Feb-2010; PackageVersion: revD, Aug-2008; PackageReference: MF05A; Publisher: Altium Limited; PackageDescription: Molded SOT-23, .115 x .063 x .040 in Body, 5 Lead, .0375 in Pitch; RoHS: N; PinCount: 5; ComponentLink1Description: LM71 Datasheet; ComponentLink1URL: http://www.national.com/ds/LM/LM71.pdf; ComponentLink2Description: LM71 Web Page; ComponentLink2URL: http://www.national.com/pf/LM/LM71.html; ComponentLink3Description: MF05A Package Page; ComponentLink3URL: http://www.national.com/packaging/folders/mf05a.html
footprint MF05A_N (SOT23, 5-Leads, Body 2.9x1.6mm, Pitch 0.95mm, Lead Span 2.8mm, IPC Medium Density)
footprint MF05A_L (SOT23, 5-Leads, Body 2.9x1.6mm, Pitch 0.95mm, Lead Span 2.8mm, IPC High Density)
footprint MF05A_M (SOT23, 5-Leads, Body 2.9x1.6mm, Pitch 0.95mm, Lead Span 2.8mm, IPC Low Density)
pins: 1 ~{CS} (in), 2 GND (power), 3 SI/O (io), 4 SC (in), 5 V+ (in)

## LM71CISD
designator U?
SPI/MICROWIRE 13-Bit Plus Sign Temperature Sensor, 7-pin LLP; PartNumber: LM71CISD; Manufacturer: National Semiconductor; PackageTopMarking: ZXYTT*L71CI; PowerWise: Y; CompType: Temp Sensor IC; Published: 4-Dec-2008; DatasheetVersion: Feb-2010; PackageVersion: revA, Jul-2003; PackageReference: SDE06A; Publisher: Altium Limited; PackageDescription: LLP, Plastic, Dual, 3 x 3 x 0.8mm Body, 6 Lead, 0.95mm Pitch, No Pullback; RoHS: N; PinCount: 6; ComponentLink1Description: LM71 Datasheet; ComponentLink1URL: http://www.national.com/ds/LM/LM71.pdf; ComponentLink2Description: LM71 Web Page; ComponentLink2URL: http://www.national.com/pf/LM/LM71.html; ComponentLink3Description: SDE06A Package Page; ComponentLink3URL: http://www.national.com/packaging/folders/sde06a.html
footprint SDE06A_full (SON, 6-Leads, Body 3x3 mm, Pitch 0.95mm, Full Paste, NSC Recommended)
footprint SDE06A_quad (SON, 6-Leads, Body 3x3 mm, Pitch 0.95mm, Quad Paste, NSC Recommended)
pins: 1 SC (in), 2 GND (power), 3 SI/O (io), 4 ~{CS} (in), 5 GND (power), 6 V+ (in), 7 DAP (power)

## LM71CISD/NOPB
designator U?
SPI/MICROWIRE 13-Bit Plus Sign Temperature Sensor, 6-pin LLP, Pb-Free; PartNumber: LM71CISD/NOPB; Manufacturer: National Semiconductor; PackageTopMarking: ZXYTT*L71CI; PowerWise: Y; CompType: Temp Sensor IC; Published: 1-Mar-2010; DatasheetVersion: Feb-2010; PackageVersion: revA, Jul-2003; PackageReference: SDE06A; Publisher: Altium Limited; PackageDescription: LLP, Plastic, Dual, 3 x 3 x 0.8mm Body, 6 Lead, 0.95mm Pitch, No Pullback; Supplier 1: Digi-Key; Supplier Part Number 1: LM71CISDTR-ND; Supplier 2: Digi-Key; Supplier Part Number 2: LM71CISDCT-ND; Supplier 3: Digi-Key; Supplier Part Number 3: LM71CISDDKR-ND; RoHS: Y; PinCount: 6; ComponentLink1Description: LM71 Datasheet; ComponentLink1URL: http://www.national.com/ds/LM/LM71.pdf; ComponentLink2Description: LM71 Web Page; ComponentLink2URL: http://www.national.com/pf/LM/LM71.html; ComponentLink3Description: SDE06A Package Page; ComponentLink3URL: http://www.national.com/packaging/folders/sde06a.html
footprint SDE06A_full (SON, 6-Leads, Body 3x3 mm, Pitch 0.95mm, Full Paste, NSC Recommended)
footprint SDE06A_quad (SON, 6-Leads, Body 3x3 mm, Pitch 0.95mm, Quad Paste, NSC Recommended)
pins: 1 SC (in), 2 GND (power), 3 SI/O (io), 4 ~{CS} (in), 5 GND (power), 6 V+ (in), 7 DAP (power)

## LM71CISDX
designator U?
SPI/MICROWIRE 13-Bit Plus Sign Temperature Sensor, 6-pin LLP; PartNumber: LM71CISDX; Manufacturer: National Semiconductor; PackageTopMarking: ZXYTT*L71CI; PowerWise: Y; CompType: Temp Sensor IC; Published: 1-Mar-2010; DatasheetVersion: Feb-2010; PackageVersion: revA, Jul-2003; PackageReference: SDE06A; Publisher: Altium Limited; PackageDescription: LLP, Plastic, Dual, 3 x 3 x 0.8mm Body, 6 Lead, 0.95mm Pitch, No Pullback; RoHS: N; PinCount: 6; ComponentLink1Description: LM71 Datasheet; ComponentLink1URL: http://www.national.com/ds/LM/LM71.pdf; ComponentLink2Description: LM71 Web Page; ComponentLink2URL: http://www.national.com/pf/LM/LM71.html; ComponentLink3Description: SDE06A Package Page; ComponentLink3URL: http://www.national.com/packaging/folders/sde06a.html
footprint SDE06A_full (SON, 6-Leads, Body 3x3 mm, Pitch 0.95mm, Full Paste, NSC Recommended)
footprint SDE06A_quad (SON, 6-Leads, Body 3x3 mm, Pitch 0.95mm, Quad Paste, NSC Recommended)
pins: 1 SC (in), 2 GND (power), 3 SI/O (io), 4 ~{CS} (in), 5 GND (power), 6 V+ (in), 7 DAP (power)

## LM71QCIMF/NOPB
designator U?
SPI/MICROWIRE 13-Bit Plus Sign Temperature Sensor, 5 pin SOT-23, Pb-Free; PartNumber: LM71QCIMF/NOPB; Manufacturer: National Semiconductor; PackageTopMarking: T16Q*XTT; PowerWise: N; CompType: Temp Sensor IC; Published: 1-Mar-2010; DatasheetVersion: Feb-2010; PackageVersion: revD, Aug-2008; PackageReference: MF05A; Publisher: Altium Limited; PackageDescription: Molded SOT-23, .115 x .063 x .040 in Body, 5 Lead, .0375 in Pitch; Supplier 1: Digi-Key; Supplier Part Number 1: LM71QCIMFTR-ND; Supplier 2: Digi-Key; Supplier Part Number 2: LM71QCIMFCT-ND; Supplier 3: Digi-Key; Supplier Part Number 3: LM71QCIMFDKR-ND; Supplier 4: Farnell; Supplier Part Number 4: 1800193; RoHS: Y; PinCount: 5; ComponentLink1Description: LM71 Datasheet; ComponentLink1URL: http://www.national.com/ds/LM/LM71.pdf; ComponentLink2Description: LM71 Web Page; ComponentLink2URL: http://www.national.com/pf/LM/LM71.html; ComponentLink3Description: MF05A Package Page; ComponentLink3URL: http://www.national.com/packaging/folders/mf05a.html
footprint MF05A_N (SOT23, 5-Leads, Body 2.9x1.6mm, Pitch 0.95mm, Lead Span 2.8mm, IPC Medium Density)
footprint MF05A_L (SOT23, 5-Leads, Body 2.9x1.6mm, Pitch 0.95mm, Lead Span 2.8mm, IPC High Density)
footprint MF05A_M (SOT23, 5-Leads, Body 2.9x1.6mm, Pitch 0.95mm, Lead Span 2.8mm, IPC Low Density)
pins: 1 ~{CS} (in), 2 GND (power), 3 SI/O (io), 4 SC (in), 5 V+ (in)

## LM71QCIMFX/NOPB
designator U?
SPI/MICROWIRE 13-Bit Plus Sign Temperature Sensor, 5 pin SOT-23, Pb-Free; PartNumber: LM71QCIMFX/NOPB; Manufacturer: National Semiconductor; PackageTopMarking: T16Q*XTT; PowerWise: N; CompType: Temp Sensor IC; Published: 1-Mar-2010; DatasheetVersion: Feb-2010; PackageVersion: revD, Aug-2008; PackageReference: MF05A; Publisher: Altium Limited; PackageDescription: Molded SOT-23, .115 x .063 x .040 in Body, 5 Lead, .0375 in Pitch; Supplier 1: Digi-Key; Supplier Part Number 1: LM71QCIMFX-ND; RoHS: Y; PinCount: 5; ComponentLink1Description: LM71 Datasheet; ComponentLink1URL: http://www.national.com/ds/LM/LM71.pdf; ComponentLink2Description: LM71 Web Page; ComponentLink2URL: http://www.national.com/pf/LM/LM71.html; ComponentLink3Description: MF05A Package Page; ComponentLink3URL: http://www.national.com/packaging/folders/mf05a.html
footprint MF05A_N (SOT23, 5-Leads, Body 2.9x1.6mm, Pitch 0.95mm, Lead Span 2.8mm, IPC Medium Density)
footprint MF05A_L (SOT23, 5-Leads, Body 2.9x1.6mm, Pitch 0.95mm, Lead Span 2.8mm, IPC High Density)
footprint MF05A_M (SOT23, 5-Leads, Body 2.9x1.6mm, Pitch 0.95mm, Lead Span 2.8mm, IPC Low Density)
pins: 1 ~{CS} (in), 2 GND (power), 3 SI/O (io), 4 SC (in), 5 V+ (in)

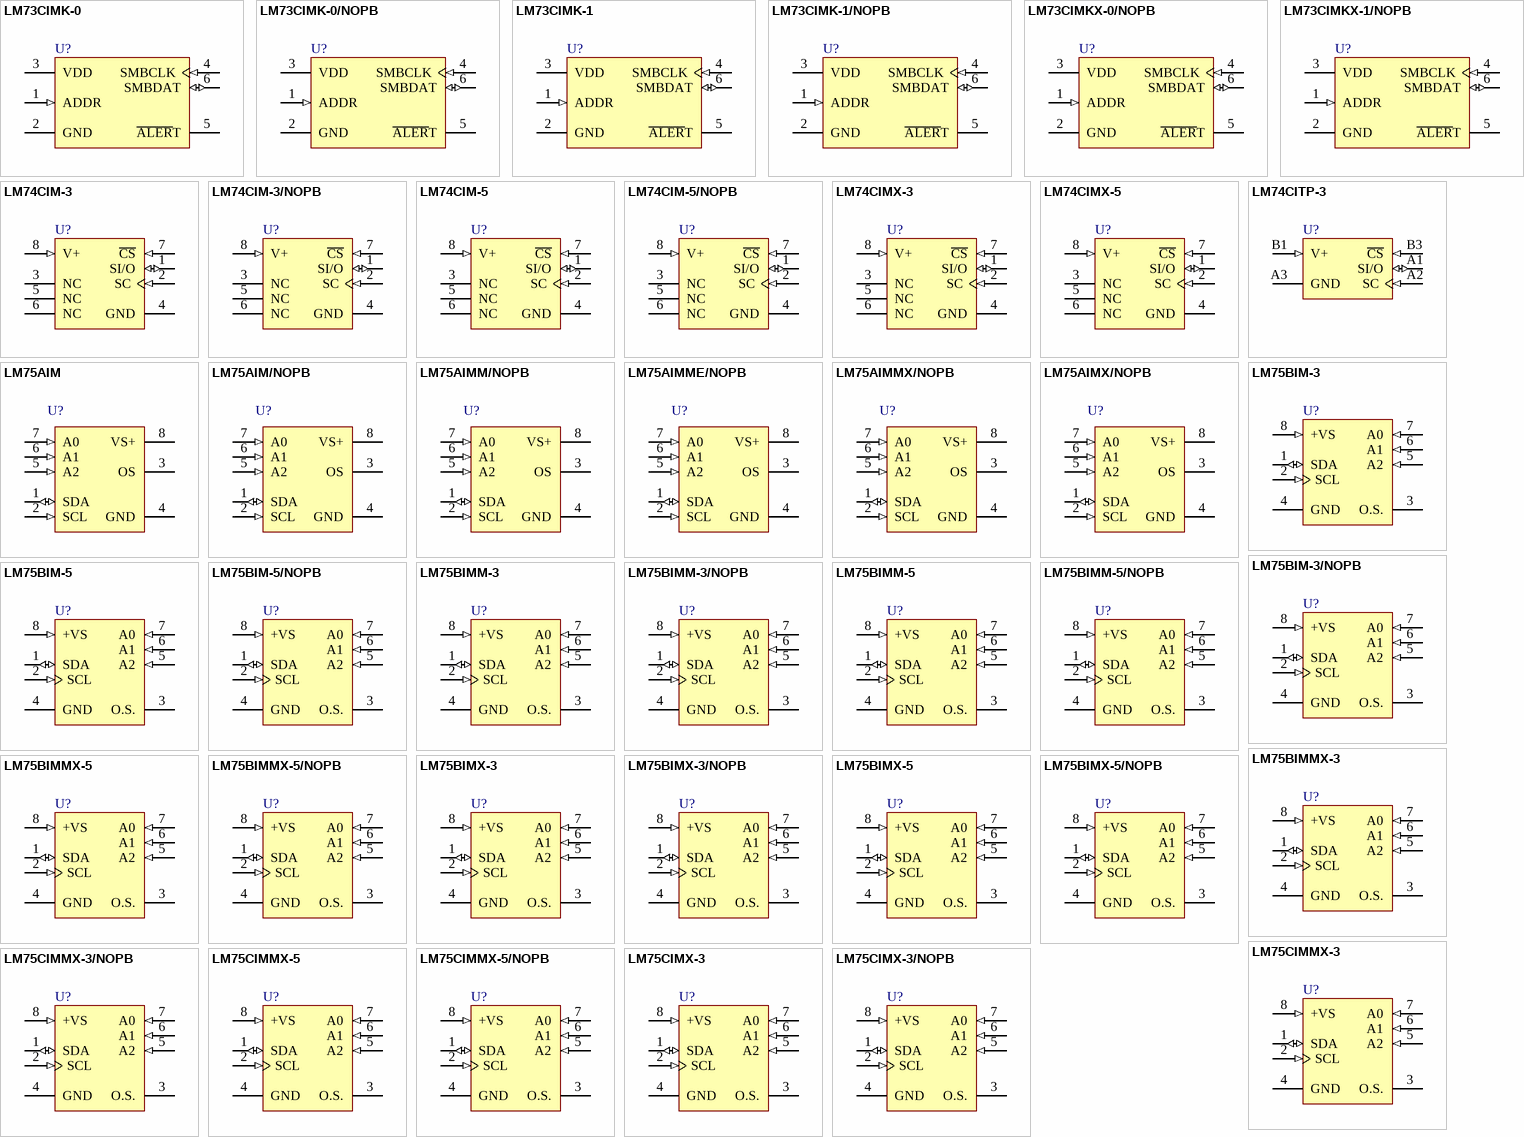
[diagram p4: symbols LM73CIMK-0 to LM75CIMX-3/NOPB]

## LM73CIMK-0
designator U?
2.7V, 11- to 14- Bit Digital Temperature Sensor with 2-Wire Interface, 6-pin Tiny SOT23; PartNumber: LM73CIMK-0; Manufacturer: National Semiconductor; PackageTopMarking: T730*XTT; PowerWise: Y; CompType: Temp Sensor IC; Published: 4-Dec-2008; DatasheetVersion: May-2009; PackageVersion: revE, Nov-2008; PackageReference: MK06A; Publisher: Altium Limited; PackageDescription: Molded TSOT, 2.97 x 1.65 x 0.87mm Body, 6 Lead, 0.95mm Pitch; Supplier 1: Farnell; Supplier Part Number 1: 1312598; RoHS: Y; PinCount: 6; Code_JEDEC: MO-193-AA; Code_IPC: SOT26A-6; ComponentLink1Description: LM73 Datasheet; ComponentLink1URL: http://www.national.com/ds/LM/LM73.pdf; ComponentLink2Description: LM73 Web Page; ComponentLink2URL: http://www.national.com/pf/LM/LM73.html; ComponentLink3Description: MK06A Package Page; ComponentLink3URL: http://www.national.com/packaging/folders/mk06a.html
footprint MK06A_N (SOT23, 6-Leads, Body 3.0x1.7mm, Pitch 0.95mm, Lead Span 2.9mm, IPC Medium Density)
footprint MK06A_L (SOT23, 6-Leads, Body 3.0x1.7mm, Pitch 0.95mm, Lead Span 2.9mm, IPC High Density)
footprint MK06A_M (SOT23, 6-Leads, Body 3.0x1.7mm, Pitch 0.95mm, Lead Span 2.9mm, IPC Low Density)
pins: 1 ADDR (in), 2 GND (power), 3 VDD (power), 4 SMBCLK (in), 5 ~{ALER}T (oc), 6 SMBDAT (io)

## LM73CIMK-0/NOPB
designator U?
2.7V, 11- to 14- Bit Digital Temperature Sensor with 2-Wire Interface, 6-pin Tiny SOT23, Pb-Free; PartNumber: LM73CIMK-0/NOPB; Manufacturer: National Semiconductor; PackageTopMarking: T730*XTT; PowerWise: Y; CompType: Temp Sensor IC; Published: 1-Mar-2010; DatasheetVersion: May-2009; PackageVersion: revE, Nov-2008; PackageReference: MK06A; Publisher: Altium Limited; PackageDescription: Molded TSOT, 2.97 x 1.65 x 0.87mm Body, 6 Lead, 0.95mm Pitch; Supplier 1: Digi-Key; Supplier Part Number 1: LM73CIMK-0TR-ND; Supplier 2: Digi-Key; Supplier Part Number 2: LM73CIMK-0CT-ND; Supplier 3: Digi-Key; Supplier Part Number 3: LM73CIMK-0DKR-ND; Supplier 4: Farnell; Supplier Part Number 4: 1559775; RoHS: Y; PinCount: 6; Code_JEDEC: MO-193-AA; Code_IPC: SOT26A-6; ComponentLink1Description: LM73 Datasheet; ComponentLink1URL: http://www.national.com/ds/LM/LM73.pdf; ComponentLink2Description: LM73 Web Page; ComponentLink2URL: http://www.national.com/pf/LM/LM73.html; ComponentLink3Description: MK06A Package Page; ComponentLink3URL: http://www.national.com/packaging/folders/mk06a.html
footprint MK06A_N (SOT23, 6-Leads, Body 3.0x1.7mm, Pitch 0.95mm, Lead Span 2.9mm, IPC Medium Density)
footprint MK06A_L (SOT23, 6-Leads, Body 3.0x1.7mm, Pitch 0.95mm, Lead Span 2.9mm, IPC High Density)
footprint MK06A_M (SOT23, 6-Leads, Body 3.0x1.7mm, Pitch 0.95mm, Lead Span 2.9mm, IPC Low Density)
pins: 1 ADDR (in), 2 GND (power), 3 VDD (power), 4 SMBCLK (in), 5 ~{ALER}T (oc), 6 SMBDAT (io)

## LM73CIMK-1
designator U?
2.7V, 11- to 14- Bit Digital Temperature Sensor with 2-Wire Interface, 6-pin Tiny SOT23; PartNumber: LM73CIMK-1; Manufacturer: National Semiconductor; PackageTopMarking: T731*XTT; PowerWise: Y; CompType: Temp Sensor IC; Published: 4-Dec-2008; DatasheetVersion: May-2009; PackageVersion: revE, Nov-2008; PackageReference: MK06A; Publisher: Altium Limited; PackageDescription: Molded TSOT, 2.97 x 1.65 x 0.87mm Body, 6 Lead, 0.95mm Pitch; Supplier 1: Farnell; Supplier Part Number 1: 1312599; RoHS: Y; PinCount: 6; Code_JEDEC: MO-193-AA; Code_IPC: SOT26A-6; ComponentLink1Description: LM73 Datasheet; ComponentLink1URL: http://www.national.com/ds/LM/LM73.pdf; ComponentLink2Description: LM73 Web Page; ComponentLink2URL: http://www.national.com/pf/LM/LM73.html; ComponentLink3Description: MK06A Package Page; ComponentLink3URL: http://www.national.com/packaging/folders/mk06a.html
footprint MK06A_N (SOT23, 6-Leads, Body 3.0x1.7mm, Pitch 0.95mm, Lead Span 2.9mm, IPC Medium Density)
footprint MK06A_L (SOT23, 6-Leads, Body 3.0x1.7mm, Pitch 0.95mm, Lead Span 2.9mm, IPC High Density)
footprint MK06A_M (SOT23, 6-Leads, Body 3.0x1.7mm, Pitch 0.95mm, Lead Span 2.9mm, IPC Low Density)
pins: 1 ADDR (in), 2 GND (power), 3 VDD (power), 4 SMBCLK (in), 5 ~{ALER}T (oc), 6 SMBDAT (io)

## LM73CIMK-1/NOPB
designator U?
2.7V, 11- to 14- Bit Digital Temperature Sensor with 2-Wire Interface, 6-pin Tiny SOT23, Pb-Free; PartNumber: LM73CIMK-1/NOPB; Manufacturer: National Semiconductor; PackageTopMarking: T731*XTT; PowerWise: Y; CompType: Temp Sensor IC; Published: 1-Mar-2010; DatasheetVersion: May-2009; PackageVersion: revE, Nov-2008; PackageReference: MK06A; Publisher: Altium Limited; PackageDescription: Molded TSOT, 2.97 x 1.65 x 0.87mm Body, 6 Lead, 0.95mm Pitch; Supplier 1: Digi-Key; Supplier Part Number 1: LM73CIMK-1TR-ND; Supplier 2: Digi-Key; Supplier Part Number 2: LM73CIMK-1CT-ND; Supplier 3: Digi-Key; Supplier Part Number 3: LM73CIMK-1DKR-ND; Supplier 4: Farnell; Supplier Part Number 4: 1694656; RoHS: Y; PinCount: 6; Code_JEDEC: MO-193-AA; Code_IPC: SOT26A-6; ComponentLink1Description: LM73 Datasheet; ComponentLink1URL: http://www.national.com/ds/LM/LM73.pdf; ComponentLink2Description: LM73 Web Page; ComponentLink2URL: http://www.national.com/pf/LM/LM73.html; ComponentLink3Description: MK06A Package Page; ComponentLink3URL: http://www.national.com/packaging/folders/mk06a.html
footprint MK06A_N (SOT23, 6-Leads, Body 3.0x1.7mm, Pitch 0.95mm, Lead Span 2.9mm, IPC Medium Density)
footprint MK06A_L (SOT23, 6-Leads, Body 3.0x1.7mm, Pitch 0.95mm, Lead Span 2.9mm, IPC High Density)
footprint MK06A_M (SOT23, 6-Leads, Body 3.0x1.7mm, Pitch 0.95mm, Lead Span 2.9mm, IPC Low Density)
pins: 1 ADDR (in), 2 GND (power), 3 VDD (power), 4 SMBCLK (in), 5 ~{ALER}T (oc), 6 SMBDAT (io)

## LM73CIMKX-0/NOPB
designator U?
2.7V, 11- to 14- Bit Digital Temperature Sensor with 2-Wire Interface, 6-pin Tiny SOT23, Pb-Free; PartNumber: LM73CIMKX-0/NOPB; Manufacturer: National Semiconductor; PackageTopMarking: T730*XTT; PowerWise: Y; CompType: Temp Sensor IC; Published: 1-Mar-2010; DatasheetVersion: May-2009; PackageVersion: revE, Nov-2008; PackageReference: MK06A; Publisher: Altium Limited; PackageDescription: Molded TSOT, 2.97 x 1.65 x 0.87mm Body, 6 Lead, 0.95mm Pitch; Supplier 1: Digi-Key; Supplier Part Number 1: LM73CIMKX-0-ND; RoHS: Y; PinCount: 6; Code_JEDEC: MO-193-AA; Code_IPC: SOT26A-6; ComponentLink1Description: LM73 Datasheet; ComponentLink1URL: http://www.national.com/ds/LM/LM73.pdf; ComponentLink2Description: LM73 Web Page; ComponentLink2URL: http://www.national.com/pf/LM/LM73.html; ComponentLink3Description: MK06A Package Page; ComponentLink3URL: http://www.national.com/packaging/folders/mk06a.html
footprint MK06A_N (SOT23, 6-Leads, Body 3.0x1.7mm, Pitch 0.95mm, Lead Span 2.9mm, IPC Medium Density)
footprint MK06A_L (SOT23, 6-Leads, Body 3.0x1.7mm, Pitch 0.95mm, Lead Span 2.9mm, IPC High Density)
footprint MK06A_M (SOT23, 6-Leads, Body 3.0x1.7mm, Pitch 0.95mm, Lead Span 2.9mm, IPC Low Density)
pins: 1 ADDR (in), 2 GND (power), 3 VDD (power), 4 SMBCLK (in), 5 ~{ALER}T (oc), 6 SMBDAT (io)